# Altium schematic symbol library D_Z.Schlib: 1 symbol
Pins are listed as number, name and electrical type; pins without a type are passive.

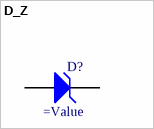
[diagram p0: symbol D_Z]

## D_Z
designator D?
Diode, Zener
pins: A, C